# Altium schematic symbol library DIODE,Schottky,60V,3A,SMD.Schlib: 1 symbol
Pins are listed as number, name and electrical type; pins without a type are passive.

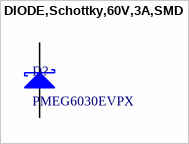
[diagram p0: symbol DIODE,Schottky,60V,3A,SMD]

## DIODE,Schottky,60V,3A,SMD
designator D?, comment PMEG6030EVPX
DIODE SCHOTTKY 60V 3A SOD128
pins: 1 K, 2 A